# Altium footprint library D2HW-BR231.PcbLib: 1 footprints
Each footprint in its own frame and in the unit in brackets; x right, y up, seen from the top. Pads: shape width x height; smd on the part's side, far side on the other; paste and mask are expansions set on the pad; w line width, h text height; cw(c..) or ccw(c..) is an arc to the next point about the centre after c.
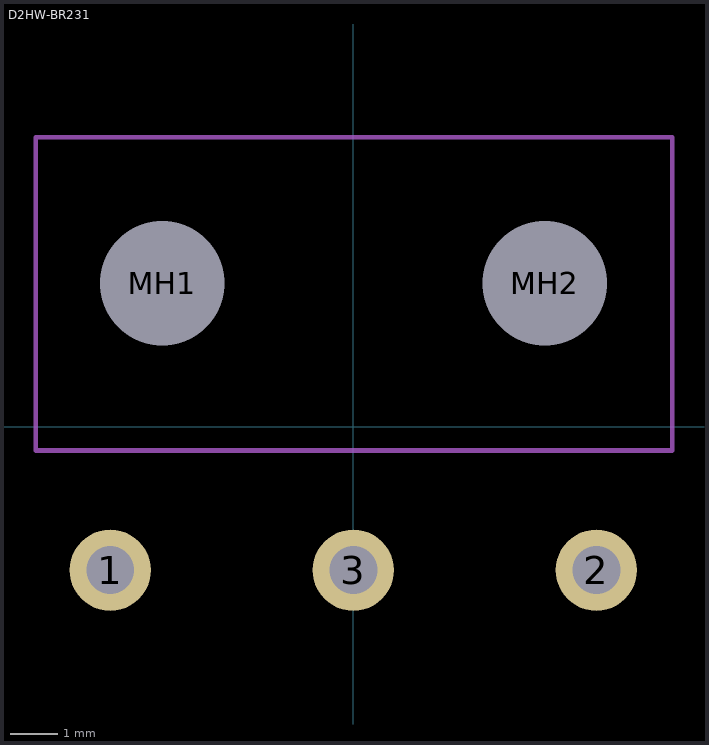
[diagram p0: the footprint, top view; thin cyan lines are the x and y axes]

## D2HW-BR231 [mm]
pads (5):
  round 1.7 hole 1: 1(-5.08,-3) 2(5.08,-3) 3(0,-3)
  round 1.524 hole 2.6 unplated: MH1(-3.997,3) MH2(4.004,3)
Mechanical 15:
  lines w0.1: -6.636,-0.5 6.664,-0.5 6.664,6.05 -6.636,6.05 -6.636,-0.5